# Altium integrated library WE-SCC SMD Common Mode Line Filter.IntLib: 10 symbols
Pins are listed as number, name and electrical type; pins without a type are passive.

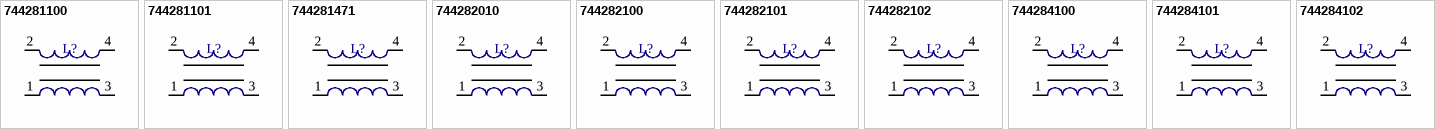
[diagram p0: symbols 744281100 to 744284102]

## 744281100
designator L?
SMD Common Mode Line Filter WE-SCC, L=10.0 µH; PartNumber: 744281100; Inductance: 10.0 µH; PackageReference: WE-SCC 7345; ComponentLink1Description: Manufacturer URL; ComponentLink1URL: http://www.we-online.com; ComponentLink2Description: Datasheet; ComponentLink2URL: http://www.we-online.de/katalog/media/pdf/744281100.pdf
footprint WE-SCC 7345 (SMD Inductor,  4-Leads, Body 7,7x7,7mm (max))
pins: 1, 2, 3, 4

## 744281101
designator L?
SMD Common Mode Line Filter WE-SCC, L=100.0 µH; PartNumber: 744281101; PackageReference: WE-SCC 7345; Inductance: 100.0 µH; ComponentLink1Description: Manufacturer URL; ComponentLink1URL: http://www.we-online.com; ComponentLink2Description: Datasheet; ComponentLink2URL: http://www.we-online.de/katalog/media/pdf/744281101.pdf
footprint WE-SCC 7345 (SMD Inductor,  4-Leads, Body 7,7x7,7mm (max))
pins: 1, 2, 3, 4

## 744281471
designator L?
SMD Common Mode Line Filter WE-SCC, L=470.0 µH; PartNumber: 744281471; PackageReference: WE-SCC 7345; Inductance: 470.0 µH; ComponentLink1Description: Manufacturer URL; ComponentLink1URL: http://www.we-online.com; ComponentLink2Description: Datasheet; ComponentLink2URL: http://www.we-online.de/katalog/media/pdf/744281471.pdf
footprint WE-SCC 7345 (SMD Inductor,  4-Leads, Body 7,7x7,7mm (max))
pins: 1, 2, 3, 4

## 744282010
designator L?
SMD Common Mode Line Filter WE-SCC, L=1.00 µH; PartNumber: 744282010; Inductance: 1.00 µH; PackageReference: WE-SCC 1260; ComponentLink1Description: Manufacturer URL; ComponentLink1URL: http://www.we-online.com; ComponentLink2Description: Datasheet; ComponentLink2URL: http://www.we-online.de/katalog/media/pdf/744282010.pdf
footprint WE-SCC 1260 (SMD Inductor,  4-Leads, Body 12,5x12,5mm (max))
pins: 1, 2, 3, 4

## 744282100
designator L?
SMD Common Mode Line Filter WE-SCC, L=10.0 µH; PartNumber: 744282100; Inductance: 10.0 µH; PackageReference: WE-SCC 1260; ComponentLink1Description: Manufacturer URL; ComponentLink1URL: http://www.we-online.com; ComponentLink2Description: Datasheet; ComponentLink2URL: http://www.we-online.de/katalog/media/pdf/744282100.pdf
footprint WE-SCC 1260 (SMD Inductor,  4-Leads, Body 12,5x12,5mm (max))
pins: 1, 2, 3, 4

## 744282101
designator L?
SMD Common Mode Line Filter WE-SCC, L=100 µH; PartNumber: 744282101; Inductance: 100 µH; PackageReference: WE-SCC 1260; ComponentLink1Description: Manufacturer URL; ComponentLink1URL: http://www.we-online.com; ComponentLink2Description: Datasheet; ComponentLink2URL: http://www.we-online.de/katalog/media/pdf/744282101.pdf
footprint WE-SCC 1260 (SMD Inductor,  4-Leads, Body 12,5x12,5mm (max))
pins: 1, 2, 3, 4

## 744282102
designator L?
SMD Common Mode Line Filter WE-SCC, L=1000 µH; PartNumber: 744282102; Inductance: 1000 µH; PackageReference: WE-SCC 1260; ComponentLink1Description: Manufacturer URL; ComponentLink1URL: http://www.we-online.com; ComponentLink2Description: Datasheet; ComponentLink2URL: http://www.we-online.de/katalog/media/pdf/744282102.pdf
footprint WE-SCC 1260 (SMD Inductor,  4-Leads, Body 12,5x12,5mm (max))
pins: 1, 2, 3, 4

## 744284100
designator L?
SMD Common Mode Line Filter WE-SCC, L=10.0 µH; PartNumber: 744284100; Inductance: 10.0 µH; PackageReference: WE-SCC 1210; ComponentLink1Description: Manufacturer URL; ComponentLink1URL: http://www.we-online.com; ComponentLink2Description: Datasheet; ComponentLink2URL: http://www.we-online.de/katalog/media/pdf/744284100.pdf
footprint WE-SCC 1210 (SMD Inductor,  4-Leads, Body 12,5x12,5mm (max))
pins: 1, 2, 3, 4

## 744284101
designator L?
SMD Common Mode Line Filter WE-SCC, L=100 µH; PartNumber: 744284101; Inductance: 100 µH; PackageReference: WE-SCC 1210; ComponentLink1Description: Manufacturer URL; ComponentLink1URL: http://www.we-online.com; ComponentLink2Description: Datasheet; ComponentLink2URL: http://www.we-online.de/katalog/media/pdf/744284101.pdf
footprint WE-SCC 1210 (SMD Inductor,  4-Leads, Body 12,5x12,5mm (max))
pins: 1, 2, 3, 4

## 744284102
designator L?
SMD Common Mode Line Filter WE-SCC, L=1000 µH; PartNumber: 744284102; Inductance: 10.0 µH; PackageReference: WE-SCC 1210; ComponentLink1Description: Manufacturer URL; ComponentLink1URL: http://www.we-online.com; ComponentLink2Description: Datasheet; ComponentLink2URL: http://www.we-online.de/katalog/media/pdf/744284102.pdf
footprint WE-SCC 1210 (SMD Inductor,  4-Leads, Body 12,5x12,5mm (max))
pins: 1, 2, 3, 4